# Altium footprint library ESP_SENSOR_STATION_REV1.PcbLib: 27 footprints (part 2 of 2)
Each footprint in its own frame and in the unit in brackets; x right, y up, seen from the top. Pads: shape width x height; smd on the part's side, far side on the other; paste and mask are expansions set on the pad; w line width, h text height; cw(c..) or ccw(c..) is an arc to the next point about the centre after c.
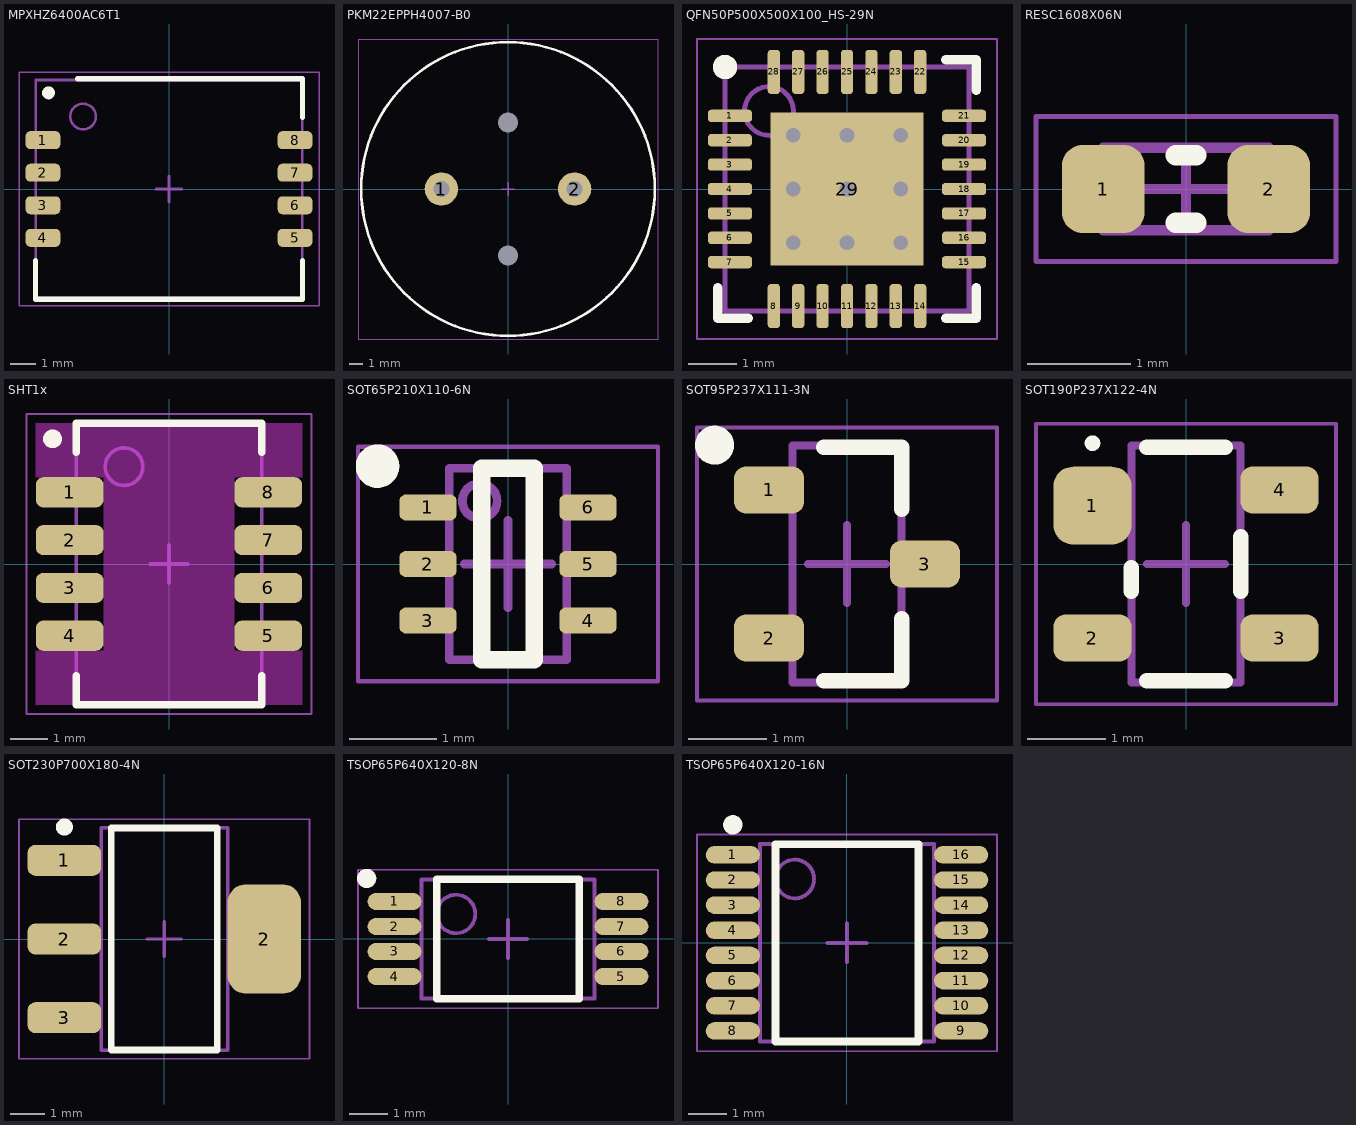
[diagram p1: the footprints below, top view; thin cyan lines are the x and y axes]

## MPXHZ6400AC6T1 [mm]
height 10
pads (8):
  rrect50% 1.35x0.7 smd paste-0.05 mask+0.05: 1(-4.915,1.905) 2(-4.915,0.635) 3(-4.915,-0.635) 4(-4.915,-1.905) 5(4.915,-1.905) 6(4.915,-0.635) 7(4.915,0.635) 8(4.915,1.905)
Top Overlay:
  circle w0.25: c-4.7,3.75 r0.125
  lines w0.2: -5.2,-2.8 -5.2,-4.3 5.2,-4.3 5.2,-2.8 ; -3.575,4.3 5.2,4.3 5.2,2.8
Top Assembly:
  circle w0.1: c-3.35,2.825 r0.5
  lines w0.1: -5.2,-4.25 5.2,-4.25 5.2,4.25 -5.2,4.25 -5.2,-4.25
  text ".Designator" at -0.875,-0.417 h1
Top Courtyard (Mech13):
  lines w0.05: -5.85,-4.55 -5.85,4.55 5.85,4.55 5.85,-4.55 -5.85,-4.55
  lines w0.1: -0.5,0 0.5,0 ; 0,-0.5 0,0.5
3D body "A3D-017-00002.step": height 9.65, standoff 0, extent -5.195,-4.254 5.195,4.255

## PKM22EPPH4007-B0 [mm]
height 10.8
pads (4):
  round 2.5 hole 1.2 mask+0.05: 1(-5,0) 2(5,0)
  round 0 hole 1.5 unplated mask+0.15: MH(0,-5) MH(0,5)
Top Overlay:
  circle w0.2: c0,0 r11.01
Top Assembly:
  circle w0.1: c0,0 r11.019
  text ".Designator" at -0.875,-0.417 h1
Top Courtyard (Mech13):
  lines w0.05: -11.25,-11.25 -11.25,11.25 11.25,11.25 11.25,-11.25 -11.25,-11.25
  lines w0.1: -0.5,0 0.5,0 ; 0,-0.5 0,0.5
3D body "PKM22EPP-4001.step": height 8.2, standoff -2.5, extent -11,-11 11,11

## QFN50P500X500X100_HS-29N [mm] "QFN, 28-Leads, Body 5,00x5,00mm, Pitch 0,50mm, Thermal Pad 3,13x3,13mm, IPC Medium Density"
height 1
pads (29):
  rrect50% 0.9x0.25 smd mask+0.05: 1(-2.4,1.5) 2(-2.4,1) 3(-2.4,0.5) 4(-2.4,0) 5(-2.4,-0.5) 6(-2.4,-1) 7(-2.4,-1.5) 15(2.4,-1.5) 16(2.4,-1) 17(2.4,-0.5) 18(2.4,0) 19(2.4,0.5) 20(2.4,1) 21(2.4,1.5)
  rrect50% 0.25x0.9 smd mask+0.05: 8(-1.5,-2.4) 9(-1,-2.4) 10(-0.5,-2.4) 11(0,-2.4) 12(0.5,-2.4) 13(1,-2.4) 14(1.5,-2.4) 22(1.5,2.4) 23(1,2.4) 24(0.5,2.4) 25(0,2.4) 26(-0.5,2.4) 27(-1,2.4) 28(-1.5,2.4)
  rect 3.13x3.13 smd paste-5 mask+0.05: 29(0,0)
via -1.1,1.1 diameter 0.6 hole 0.3
via 0,1.1 diameter 0.6 hole 0.3
via 1.1,1.1 diameter 0.6 hole 0.3
via -1.1,0 diameter 0.6 hole 0.3
via 0,0 diameter 0.6 hole 0.3
via 1.1,0 diameter 0.6 hole 0.3
via -1.1,-1.1 diameter 0.6 hole 0.3
via 0,-1.1 diameter 0.6 hole 0.3
via 1.1,-1.1 diameter 0.6 hole 0.3
Top Overlay:
  circle w0.25: c-2.5,2.5 r0.125
  lines w0.2: -2.65,-2.025 -2.65,-2.65 -2.025,-2.65 ; 2.025,-2.65 2.65,-2.65 2.65,-2.025 ; 2.025,2.65 2.65,2.65 2.65,2.025
Top Paste:
  region: -1.3,-0.2 -0.2,-0.2 -0.2,-1.3 -1.3,-1.3
  region: 1.3,-0.2 0.2,-0.2 0.2,-1.3 1.3,-1.3
  region: 1.3,0.2 0.2,0.2 0.2,1.3 1.3,1.3
  region: -1.3,0.2 -0.2,0.2 -0.2,1.3 -1.3,1.3
Top Assembly:
  circle w0.1: c-1.6,1.6 r0.5
  lines w0.1: -2.5,-2.5 -2.5,2.5 2.5,2.5 2.5,-2.5 -2.5,-2.5
  text ".Designator" at -0.875,-0.417 h1
Top Courtyard (Mech13):
  lines w0.05: -3.075,-3.075 -3.075,3.075 3.075,3.075 3.075,-3.075 -3.075,-3.075
  lines w0.1: -0.5,0 0.5,0 ; 0,-0.5 0,0.5
3D body "QFN50P500X500X100_HS-29N.step": height 1, standoff 0, extent -2.501,-2.501 2.501,2.501

## RESC1608X06N [mm] "Chip Resistor, 2-Leads, Body 1,60x0,80mm, IPC Medium Density"
height 0.55
pads (2):
  rrect50% 0.8x0.85 smd paste-0.05 mask+0.05: 1(-0.8,0) 2(0.8,0)
Top Overlay:
  lines w0.2: -0.1,-0.325 0.1,-0.325 ; -0.1,0.325 0.1,0.325
Top Assembly:
  lines w0.1: -0.8,-0.4 0.8,-0.4 0.8,0.4 -0.8,0.4 -0.8,-0.4
  text ".Designator" at -2.525,-0.367 h1
Top Courtyard (Mech13):
  lines w0.05: -1.45,-0.7 1.45,-0.7 1.45,0.7 -1.45,0.7 -1.45,-0.7
  lines w0.1: -0.4,0 0.4,0 ; 0,-0.4 0,0.4
3D body "RESC1608X06N.step": height 0.55, standoff 0, extent -0.8,-0.4 0.8,0.4

## SHT1x [mm]
height 2.5
pads (8):
  rrect50% 1.8x0.8 smd paste-0.05 mask+0.05: 1(-2.64,1.905) 2(-2.64,0.635) 3(-2.64,-0.635) 4(-2.64,-1.905) 5(2.64,-1.905) 6(2.64,-0.635) 7(2.64,0.635) 8(2.64,1.905)
Top Layer keep-out:
  region: -3.54,-2.305 -1.74,-2.305 -1.74,2.305 -3.54,2.305 -3.54,3.735 3.54,3.735 3.54,2.305 1.74,2.305 1.74,-2.305 3.54,-2.305 3.54,-3.735 -3.54,-3.735
Top Overlay:
  circle w0.25: c-3.095,3.325 r0.125
  lines w0.2: -2.465,-2.97 -2.465,-3.735 2.465,-3.735 2.465,-2.97 ; -2.465,2.97 -2.465,3.735 2.465,3.735 2.465,2.97
Top Assembly:
  circle w0.1: c-1.195,2.585 r0.5
  lines w0.1: -2.465,-3.735 2.465,-3.735 2.465,3.735 -2.465,3.735 -2.465,-3.735
  text ".Designator" at -0.875,-0.417 h1
Top Courtyard (Mech13):
  lines w0.05: -3.79,-3.985 3.79,-3.985 3.79,3.985 -3.79,3.985 -3.79,-3.985
  lines w0.1: -0.5,0 0.5,0 ; 0,-0.5 0,0.5
3D body "SHT1x.step": height 2.35, standoff -0.01, extent -2.465,-3.735 2.465,3.735

## SOT65P210X110-6N [mm] "SOT23, 6-Leads, Body 2,00x2,10mm, Pitch 0,65mm, IPC Medium Density"
height 1.1
pads (6):
  rrect50% 0.66x0.3 smd mask+0.05: 1(-0.92,0.65) 2(-0.92,0) 3(-0.92,-0.65) 4(0.92,-0.65) 5(0.92,0) 6(0.92,0.65)
Top Overlay:
  circle w0.25: c-1.5,1.125 r0.125
  lines w0.2: -0.3,-1.1 -0.3,1.1 0.3,1.1 0.3,-1.1 -0.3,-1.1
Top Assembly:
  circle w0.1: c-0.325,0.725 r0.2
  lines w0.1: -0.675,-1.1 0.675,-1.1 0.675,1.1 -0.675,1.1 -0.675,-1.1
  text ".Designator" at -0.875,-0.417 h1
Top Courtyard (Mech13):
  lines w0.05: -1.725,-1.35 1.725,-1.35 1.725,1.35 -1.725,1.35 -1.725,-1.35
  lines w0.1: -0.5,0 0.5,0 ; 0,-0.5 0,0.5
3D body "SOT65P210X110-6N.step": height 1.1, standoff 0, extent -1.1,-1.1 1.1,1.1

## SOT95P237X111-3N [mm] "SOT23, 3-Leads, Body 2,92x2,37mm, Pitch 0,95mm, IPC Medium Density"
height 1.11
pads (3):
  rrect50% 0.9x0.6 smd paste-0.05 mask+0.05: 1(-1,0.95) 2(-1,-0.95) 3(1,0)
Top Overlay:
  circle w0.25: c-1.7,1.525 r0.125
  lines w0.2: -0.3,-1.5 0.7,-1.5 0.7,-0.7 ; -0.3,1.5 0.7,1.5 0.7,0.7
Top Assembly:
  lines w0.1: -0.7,-1.52 0.7,-1.52 0.7,1.52 -0.7,1.52 -0.7,-1.52
  text ".Designator" at -2.925,-0.367 h1
Top Courtyard (Mech13):
  lines w0.05: -1.925,-1.75 1.925,-1.75 1.925,1.75 -1.925,1.75 -1.925,-1.75
  lines w0.1: -0.5,0 0.5,0 ; 0,-0.5 0,0.5
3D body "SOT95P237X111-3N.step": height 1.11, standoff 0, extent -1.32,-1.52 1.32,1.52

## SOT190P237X122-4N [mm] "SOT143, 4-Leads, Body 2,92x2,37mm, Pitch 1,90mm, IPC Medium Density"
height 1.22
pads (4):
  rrect50% 1x1 smd paste-0.05 mask+0.05: 1(-1.2,0.75)
  rrect50% 1x0.6 smd paste-0.05 mask+0.05: 2(-1.2,-0.95) 3(1.2,-0.95) 4(1.2,0.95)
Top Overlay:
  circle w0.1: c-1.2,1.55 r0.05
  lines w0.2: -0.7,-0.35 -0.7,-0.05 ; -0.5,-1.5 0.5,-1.5 ; -0.5,1.5 0.5,1.5 ; 0.7,-0.35 0.7,0.35
Top Assembly:
  lines w0.1: -0.7,-1.52 0.7,-1.52 0.7,1.52 -0.7,1.52 -0.7,-1.52
  text ".Designator" at -0.875,-0.417 h1
Top Courtyard (Mech13):
  lines w0.05: -1.925,-1.8 1.925,-1.8 1.925,1.8 -1.925,1.8 -1.925,-1.8
  lines w0.1: -0.5,0 0.5,0 ; 0,-0.5 0,0.5
3D body "sot143.step": height 1, standoff 0, extent -1.21,-1.46 1.21,1.46

## SOT230P700X180-4N [mm] "SOT223, 4-Leads, Body 6,50x7,00mm (avg), Pitch 2,30mm, IPC Medium Density"
height 1.8
pads (4):
  rrect50% 2.15x0.9 smd paste-0.05 mask+0.05: 1(-2.925,2.3) 2(-2.925,0) 3(-2.925,-2.3)
  rrect50% 2.15x3.2 smd paste-0.05 mask+0.05: 2(2.925,0)
Top Overlay:
  circle w0.25: c-2.925,3.275 r0.125
  lines w0.2: -1.55,-3.25 -1.55,3.25 1.55,3.25 1.55,-3.25 -1.55,-3.25
Top Assembly:
  lines w0.1: -1.85,-3.25 -1.85,3.25 1.85,3.25 1.85,-3.25 -1.85,-3.25
  text ".Designator" at -0.875,-0.417 h1
Top Courtyard (Mech13):
  lines w0.05: -4.25,-3.5 -4.25,3.5 4.25,3.5 4.25,-3.5 -4.25,-3.5
  lines w0.1: -0.5,0 0.5,0 ; 0,-0.5 0,0.5
3D body "SOT230P700X180-4N.step": height 1.8, standoff 0, extent -3.5,-3.25 3.5,3.25

## TSOP65P640X120-8N [mm] "TSOP, 8-Leads, Body 3,00x4,40mm, Pitch 0,65mm, IPC Medium Density"
height 1.2
pads (8):
  oval 1.4x0.45 smd paste-0.05 mask+0.05: 1(-2.95,0.975) 2(-2.95,0.325) 3(-2.95,-0.325) 4(-2.95,-0.975) 5(2.95,-0.975) 6(2.95,-0.325) 7(2.95,0.325) 8(2.95,0.975)
Top Overlay:
  circle w0.25: c-3.675,1.575 r0.125
  lines w0.2: -1.85,-1.55 -1.85,1.55 1.85,1.55 1.85,-1.55 -1.85,-1.55
Top Assembly:
  circle w0.1: c-1.35,0.65 r0.5
  lines w0.1: -2.25,-1.55 -2.25,1.55 2.25,1.55 2.25,-1.55 -2.25,-1.55
  text ".Designator" at -0.875,-0.417 h1
Top Courtyard (Mech13):
  lines w0.05: -3.9,-1.8 -3.9,1.8 3.9,1.8 3.9,-1.8 -3.9,-1.8
  lines w0.1: -0.5,0 0.5,0 ; 0,-0.5 0,0.5
3D body "TSOP65P640X120-8N.step": height 1.2, standoff 0, extent -3.2,-1.55 3.2,1.55

## TSOP65P640X120-16N [mm] "TSOP, 16-Leads, Body 5,00x4,40mm, Pitch 0,65mm, IPC Medium Density"
height 1.2
pads (16):
  oval 1.4x0.45 smd paste-0.05 mask+0.05: 1(-2.95,2.275) 2(-2.95,1.625) 3(-2.95,0.975) 4(-2.95,0.325) 5(-2.95,-0.325) 6(-2.95,-0.975) 7(-2.95,-1.625) 8(-2.95,-2.275) 9(2.95,-2.275) 10(2.95,-1.625) 11(2.95,-0.975) 12(2.95,-0.325) 13(2.95,0.325) 14(2.95,0.975) 15(2.95,1.625) 16(2.95,2.275)
Top Overlay:
  circle w0.25: c-2.95,3.05 r0.125
  lines w0.2: -1.85,-2.55 1.85,-2.55 1.85,2.55 -1.85,2.55 -1.85,-2.55
Top Assembly:
  circle w0.1: c-1.35,1.65 r0.5
  lines w0.1: -2.25,-2.55 2.25,-2.55 2.25,2.55 -2.25,2.55 -2.25,-2.55
  text ".Designator" at -0.875,-0.417 h1
Top Courtyard (Mech13):
  lines w0.05: -3.875,-2.8 3.875,-2.8 3.875,2.8 -3.875,2.8 -3.875,-2.8
  lines w0.1: -0.5,0 0.5,0 ; 0,-0.5 0,0.5
3D body "TSOP65P640X120-16N.step": height 1.2, standoff 0, extent -3.2,-2.55 3.2,2.55